# EAGLE library part PRQ75W-Q48-S15-D (library cots_dc-dc)
75 W, 4:1 Input Range, Single Regulated Output, DIP, 2250 Vdc Isolation, Dc-Dc Converter Check availability <https://pricing.snapeda.com/parts/PRQ75W-Q48-S15-D/CUI%20Inc./view-part?ref=eda>
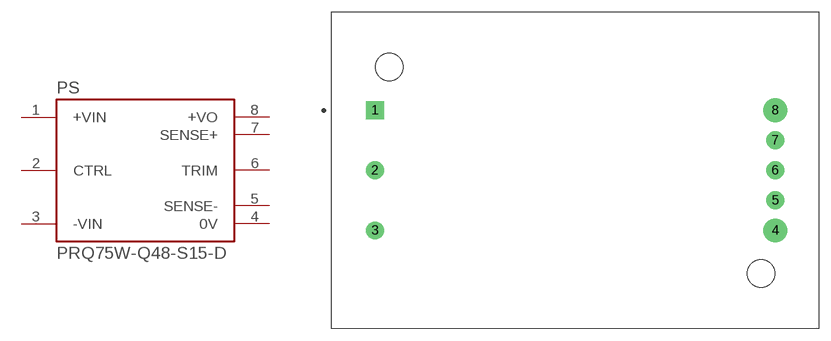
[diagram p0: symbol with the pads of CONV_PRQ75W-Q48-S15-D; footprint CONV_PRQ75W-Q48-S15-D]

Designator prefix PS

## PRQ75W-Q48-S15-D (AVAILABILITY: In Stock; CUI_PURCHASE_URL: https://www.cui.com/product/dc-dc-converters/isolated/prq75w-d-series?utm_source=snapeda.com&utm_medium=referral&utm_campaign=snapedaBOM; DESCRIPTION: 75 W, 4:1 Input Range, Single Regulated Output, DIP, 2250 Vdc Isolation, Dc-Dc Converter; MF: CUI Inc.; MP: PRQ75W-Q48-S15-D; PACKAGE: None; PRICE: None; PURCHASE-URL: https://pricing.snapeda.com/search/part/PRQ75W-Q48-S15-D/?ref=eda)  [CONV_PRQ75W-Q48-S15-D]
1  +VIN  in
2  CTRL  in
3  -VIN  in
4  0V  pas
5  SENSE-  in
6  TRIM  pas
7  SENSE+  in
8  +VO  out

## Footprint CONV_PRQ75W-Q48-S15-D (pad centres in mm)
drill 1.5 square: 1 -25.4,7.62
drill 1.5: 2 -25.4,0; 3 -25.4,-7.62; 5 25.4,-3.81; 6 25.4,0; 7 25.4,3.81
drill 2: 4 25.4,-7.62; 8 25.4,7.62
hole 3.5 at -23.6,13.1
hole 3.5 at 23.6,-13.1